# Altium schematic symbol library AltiumDesigner.SchLib: 2 symbols
Pins are listed as number, name and electrical type; pins without a type are passive.

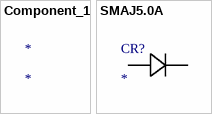
[diagram p0: symbols Component_1 to SMAJ5.0A]

## Component_1
designator *

## SMAJ5.0A
designator CR?
Imported; Manufacturer_Part_Number: SMAJ5.0A; Vendor: Littelfuse Inc; Built_By: EMA_UL_Team; Type: DEV; RefDes: RefDes; Value: Value
footprint SMASeries
pins: 1, 2